# Altium footprint library PCB - LEADED - SOT127P600X175-8N.PcbLib: 1 footprints
Each footprint in its own frame and in the unit in brackets; x right, y up, seen from the top. Pads: shape width x height; smd on the part's side, far side on the other; paste and mask are expansions set on the pad; w line width, h text height; cw(c..) or ccw(c..) is an arc to the next point about the centre after c.
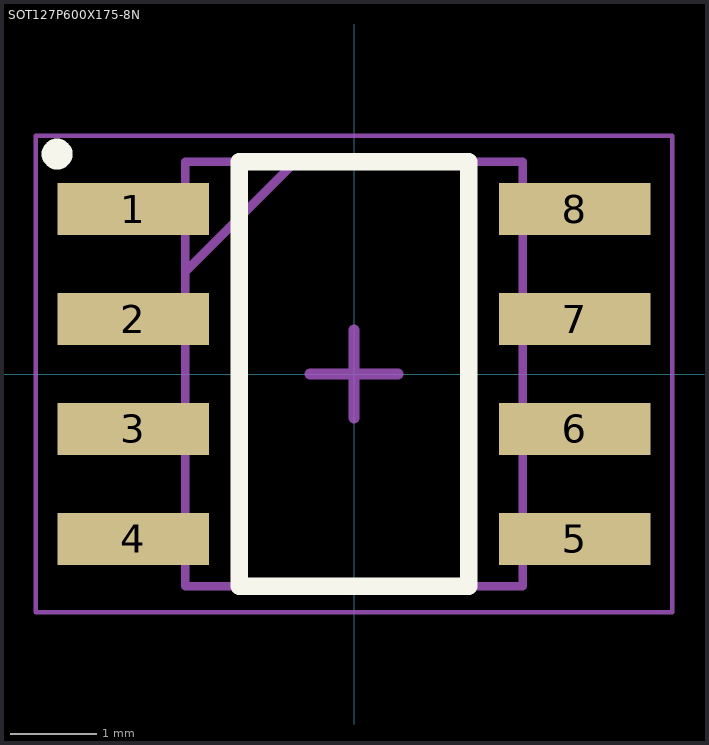
[diagram p0: the footprint, top view; thin cyan lines are the x and y axes]

## SOT127P600X175-8N [mm]
pads (8):
  rect 1.75x0.6 smd: 1(-2.55,1.905) 2(-2.55,0.635) 3(-2.55,-0.635) 4(-2.55,-1.905) 5(2.55,-1.905) 6(2.55,-0.635) 7(2.55,0.635) 8(2.55,1.905)
Top Overlay:
  circle w0.254: c-3.429,2.54 r0.051
  lines w0.2: -1.325,-2.45 1.325,-2.45 1.325,2.45 -1.325,2.45 -1.325,-2.45
Top Assembly:
  lines w0.1: -1.95,1.18 -0.68,2.45 ; -1.95,-2.45 1.95,-2.45 1.95,2.45 -1.95,2.45 -1.95,-2.45
Top Courtyard:
  lines w0.05: -3.675,-2.75 3.675,-2.75 3.675,2.75 -3.675,2.75 -3.675,-2.75
Top Designator:
  text ".Designator" at -3.302,2.879 h0.64
Top Component Center:
  lines w0.127: -0.508,0 0,0 ; 0,-0.508 0,0 ; 0,0.508 0,0 ; 0.508,0 0,0
3D body "ADA4940-1ARZ.stp": height 1.75, standoff 0, extent -3,-2.45 3,2.45